# Altium footprint library SMD_LED_Series_PCB_Library_ARAF.PcbLib: 1 footprints
Each footprint in its own frame and in the unit in brackets; x right, y up, seen from the top. Pads: shape width x height; smd on the part's side, far side on the other; paste and mask are expansions set on the pad; w line width, h text height; cw(c..) or ccw(c..) is an arc to the next point about the centre after c.
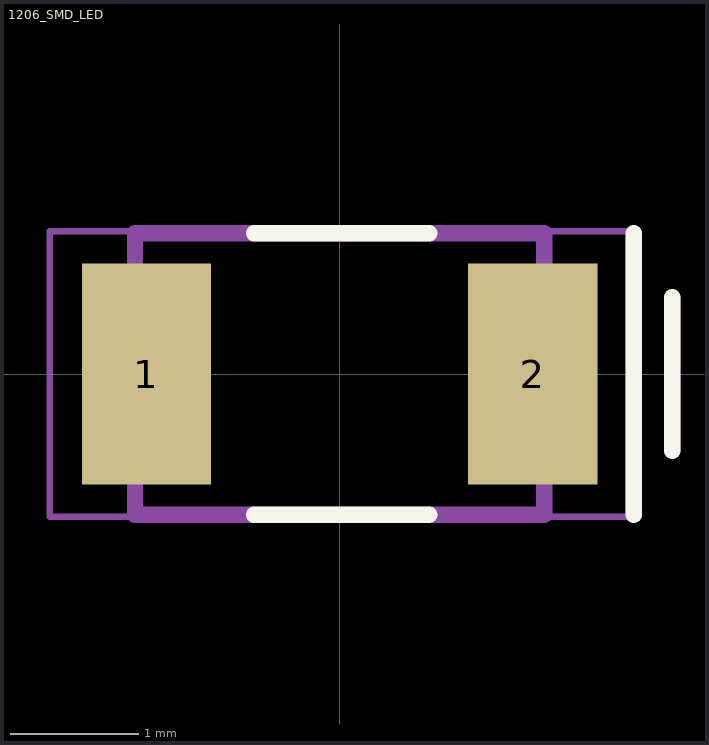
[diagram p0: the footprint, top view; thin cyan lines are the x and y axes]

## 1206_SMD_LED [mm]
pads (2):
  rect 1.01x1.73 smd: 1(-1.51,0) 2(1.51,0)
Top Overlay:
  lines w0.127: -0.67,-1.1 0.7,-1.1 ; -0.67,1.1 0.7,1.1 ; 2.3,-1.1 2.3,1.1 ; 2.6,-0.6 2.6,0.6
Mechanical 13:
  lines w0.127: 2.3,-1.1 2.3,1.1 ; 2.6,-0.6 2.6,0.6 ; -1.6,-1.1 1.6,-1.1 1.6,1.1 -1.6,1.1 -1.6,-1.1
Mechanical 15:
  lines w0.05: -2.265,-1.115 2.265,-1.115 2.265,1.115 -2.265,1.115 -2.265,-1.115
3D body "LED_1206_Red.stp": height 0.9, standoff 0, extent -1.635,-0.825 1.635,0.825